# Altium schematic symbol library Incoming UNVERIFIED.SchLib: 12 symbols
Pins are listed as number, name and electrical type; pins without a type are passive.

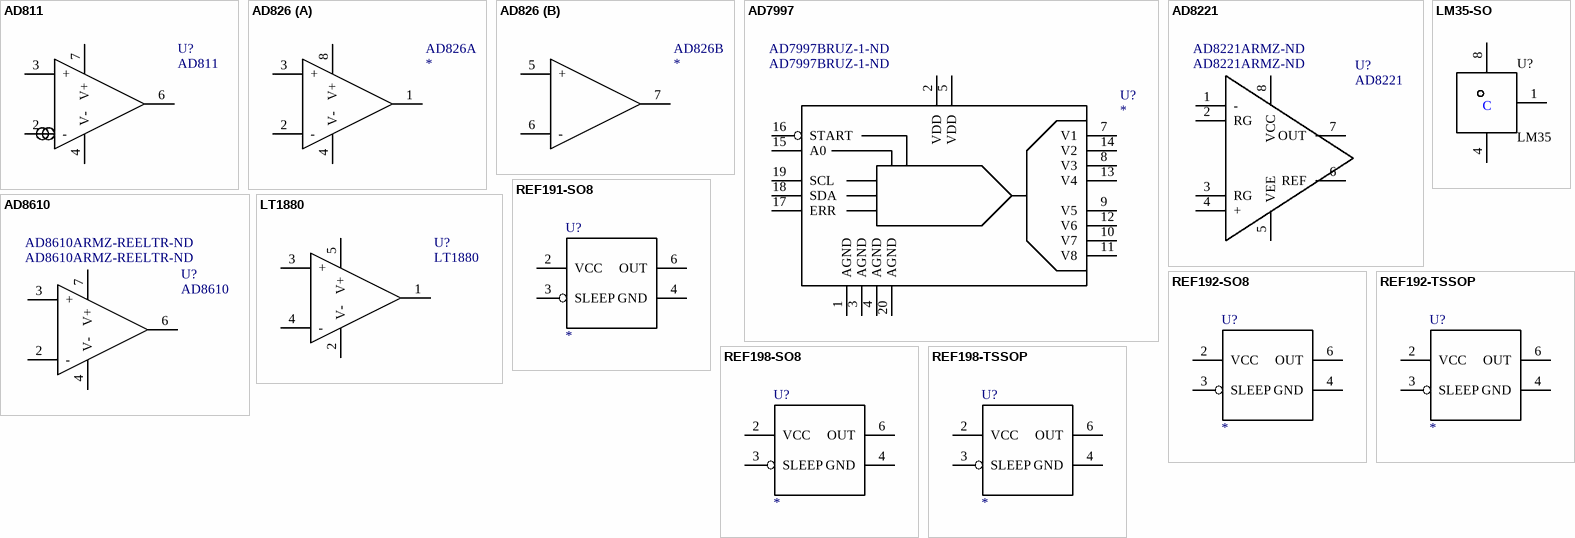
[diagram p0: symbols AD811 to REF198-TSSOP]

## AD811
designator U?
footprint SO8
pins: 2 -, 3 +, 4 V-, 6 OUT, 7 V+

## AD826
designator AD826
AD826; Manufacturer: Analog Devices Inc; Manufacturer Part Number: AD826ARZ; Current - Input Bias: 3.3µA; Current - Output / Channel: 50mA; Slew Rate: 350 V/µs; Number of Circuits: 2; Description: IC OPAMP VF 50MHZ DUAL LP 8SOIC; Current - Supply: 6.6mA; Voltage - Supply, Single/Dual (±): 5 V ~ 36 V, ±2.5 V ~ 18 V; Voltage - Input Offset: 500µV; Gain Bandwidth Product: 50MHz; Amplifier Type: Voltage Feedback; Supplier 1: Digi-Key; Supplier: Digi-Key; Package / Case: 8-SOIC (3.9mm Width); Operating Temperature: -40°C ~ 85°C; Category: Integrated Circuits (ICs); Packaging: Tube; RoHS: RoHS Compliant; Output Type: -; Supplier Part Number 1: AD826ARZ-ND; Supplier Part Number: AD826ARZ-ND
footprint SO8
part A pins: 1 OUT, 2 -, 3 +, 4 V-, 8 V+
part B pins: 5 +, 6 -, 7 OUT

## AD7997
designator U?  Supplier Part Number 1: AD7997BRUZ-1-ND
AD7997; Manufacturer Part Number: AD7997BRUZ-1; Manufacturer: Analog Devices Inc; Number of Bits: 10; Data Interface: I²C; Power Dissipation (Max): 2.2mW; Voltage Supply Source: Single Supply; Sampling Rate (Per Second): 188k; Number of Converters: 1; Description: IC ADC 10BIT 8CHAN I2C 20TSSOP; Number of Inputs and Type: 8 Single-Ended, Unipolar; Supplier 1: Digi-Key; Package / Case: 20-TSSOP; RoHS: RoHS Compliant; Packaging: Tube; Operating Temperature: -40°C ~ 85°C; Category: Integrated Circuits (ICs); Supplier: Digi-Key; Supplier Part Number: AD7997BRUZ-1-ND
pins: 1 AGND, 2 VDD, 3 AGND, 4 AGND, 5 VDD, 7  V1, 8 V3, 9 V5, 10 V7, 11 V8, 12 V6, 13 V4, 14 V2, 15 A0, 16 START, 17 ERR, 18 SDA, 19 SCL, 20 AGND

## AD8221
designator U?  Supplier Part Number 1: AD8221ARMZ-ND
Manufacturer: Analog Devices Inc; Manufacturer Part Number: AD8221ARMZ; Number of Circuits: 1; Current - Output / Channel: 18mA; Description: IC AMP INST PREC LN 18MA 8MSOP; Voltage - Supply, Single/Dual (±): ±2.3 V ~ 18 V; Slew Rate: 2 V/µs; Current - Input Bias: 500pA; Amplifier Type: Instrumentation; Voltage - Input Offset: 60µV; Current - Supply: 900µA; Supplier 1: Digi-Key; Packaging: Tube; Package / Case: 8-MSOP, Micro8™, 8-uMAX, 8-uSOP,; Supplier: Digi-Key; Category: Integrated Circuits (ICs); Output Type: -; Operating Temperature: -40°C ~ 85°C; Gain Bandwidth Product: -; RoHS: RoHS Compliant; Supplier Part Number: AD8221ARMZ-ND
footprint MSOP8
pins: 1 -, 2 RG, 3 RG, 4 +, 5 VEE, 6 REF, 7 OUT, 8 VCC

## AD8610
designator U?  Supplier Part Number 1: AD8610ARMZ-REELTR-ND
Manufacturer: Analog Devices Inc; Manufacturer Part Number: AD8610ARMZ-REEL; Description: IC OPAMP JFET 25MHZ PREC 8MSOP; Slew Rate: 60 V/µs; Number of Circuits: 1; Voltage - Input Offset: 85µV; Current - Output / Channel: 45mA; Current - Supply: 3mA; Voltage - Supply, Single/Dual (±): ±5 V ~ 13 V; Amplifier Type: J-FET; Gain Bandwidth Product: 25MHz; Current - Input Bias: 3pA; Supplier 1: Digi-Key; Category: Integrated Circuits (ICs); Operating Temperature: -40°C ~ 125°C; Packaging: Tape & Reel (TR); Package / Case: 8-MSOP, Micro8™, 8-uMAX, 8-uSOP,; RoHS: RoHS Compliant; Supplier: Digi-Key; Output Type: -; Supplier Part Number: AD8610ARMZ-REELTR-ND
footprint MSOP8
pins: 2 -, 3 +, 4 V-, 6 OUT, 7 V+

## LM35-SO
designator U?, comment LM35
LM35 TEMPERATURE SENSOR; Part Field 1: Centigrade Temperature Sensor LM35 SO8; Part Field 2: Digikey; Part Field 3: LM35DM-ND; Part Field 4: NATIONAL SEMICONDUCTOR
footprint SO8
pins: 1 OUT, 4 GND, 8 V+
text: C

## LT1880
designator U?
Manufacturer: Linear Technology; Manufacturer Part Number: LT1880CS5#TRMPBF; Current - Output / Channel: 25mA; Slew Rate: 0.55 V/µs; Current - Input Bias: 150pA; Number of Circuits: 1; Voltage - Supply, Single/Dual (±): 2.7 V ~ 36 V, ±1.35 V ~ 18 V; Voltage - Input Offset: 40µV; Amplifier Type: General Purpose; Description: IC OPAMP PICO/IN RR/OUT TSOT23-5; Gain Bandwidth Product: 1.1MHz; Current - Supply: 1.5mA; Output Type: Rail-to-Rail; Supplier 1: Digi-Key; RoHS: RoHS Compliant; Operating Temperature: 0°C ~ 70°C; Category: Integrated Circuits (ICs); Supplier: Digi-Key; Package / Case: TSOT-23-5, TSOT-5, TSOP-5; Packaging: Tape & Reel (TR); Supplier Part Number 1: LT1880CS5#TRMPBFTR-ND; Supplier Part Number: LT1880CS5#TRMPBFTR-ND
footprint SOT23-5
pins: 1 OUT, 2 V-, 3 +, 4 -, 5 V+

## REF191-SO8
designator U?
REFERENCE DIODE 2.048 VOLT; Manufacturer: Analog Devices Inc; Manufacturer Part Number: REF191GSZ; Tolerance: ±10mV; Number of Channels: 1; Voltage - Output: 2.048V; Voltage - Input: 3 ~ 15 V; Current - Output: 30mA; Current - Quiescent: 45µA; Description: IC VOLT REF LDO 2.048V 8SOIC; Temperature Coefficient: 25ppm/°C; Reference Type: Series; Category: Integrated Circuits (ICs); Current - Cathode: -; Package / Case: 8-SOIC (3.9mm Width); Operating Temperature: -40°C ~ 85°C; Supplier: Digi-Key; Packaging: Tube; RoHS: RoHS Compliant; Supplier 1: Digi-Key; Supplier Part Number: REF191GSZ-ND; Supplier Part Number 1: REF191GSZ-ND
footprint SO8
pins: 2 VCC, 3 SLEEP, 4 GND, 6 OUT

## REF192-SO8
designator U?
REFERENCE DIODE 2.5 VOLT; Manufacturer: Analog Devices Inc; Manufacturer Part Number: REF192GSZ; Tolerance: ±10mV; Number of Channels: 1; Voltage - Output: 2.5V; Voltage - Input: 3 ~ 15 V; Current - Output: 30mA; Current - Quiescent: 45µA; Description: IC VOLT REFERENCE LDO 2.5V 8SOIC; Temperature Coefficient: 25ppm/°C; Reference Type: Series; Supplier 1: Digi-Key; Category: Integrated Circuits (ICs); Current - Cathode: -; Package / Case: 8-SOIC (3.9mm Width); Operating Temperature: -40°C ~ 85°C; Supplier: Digi-Key; Packaging: Tube; RoHS: RoHS Compliant; Supplier Part Number 1: REF192GSZ-ND; Supplier Part Number: REF192GSZ-ND
footprint SO8
pins: 2 VCC, 3 SLEEP, 4 GND, 6 OUT

## REF192-TSSOP
designator U?
REFERENCE DIODE 2.5 VOLT; Manufacturer: Analog Devices Inc; Manufacturer Part Number: REF192GRUZ; Tolerance: ±10mV; Number of Channels: 1; Voltage - Output: 2.5V; Voltage - Input: 3 ~ 15 V; Current - Output: 30mA; Current - Quiescent: 45µA; Description: IC VOLT REF MCRPWR 2.5V 8-TSSOP; Temperature Coefficient: 25ppm/°C; Reference Type: Series; Category: Integrated Circuits (ICs); Current - Cathode: -; Package / Case: 8-TSSOP; Operating Temperature: -40°C ~ 85°C; Supplier: Digi-Key; Packaging: Tube; RoHS: RoHS Compliant; Supplier 1: Digi-Key; Supplier Part Number: REF192GRUZ-ND; Supplier Part Number 1: REF192GRUZ-ND
footprint TSSOP8
pins: 2 VCC, 3 SLEEP, 4 GND, 6 OUT

## REF198-SO8
designator U?
REFERENCE DIODE 4.096 VOLT; Manufacturer: Analog Devices Inc; Manufacturer Part Number: REF192GSZ; Tolerance: ±10mV; Number of Channels: 1; Voltage - Output: 2.5V; Voltage - Input: 3 ~ 15 V; Current - Output: 30mA; Current - Quiescent: 45µA; Description: IC VOLT REFERENCE LDO 2.5V 8SOIC; Temperature Coefficient: 25ppm/°C; Reference Type: Series; Supplier 1: Digi-Key; Category: Integrated Circuits (ICs); Current - Cathode: -; Package / Case: 8-SOIC (3.9mm Width); Operating Temperature: -40°C ~ 85°C; Supplier: Digi-Key; Packaging: Tube; RoHS: RoHS Compliant; Supplier Part Number 1: REF192GSZ-ND; Supplier Part Number: REF192GSZ-ND
footprint SO8
pins: 2 VCC, 3 SLEEP, 4 GND, 6 OUT

## REF198-TSSOP
designator U?
REFERENCE DIODE 4.096 VOLT; Manufacturer: Analog Devices Inc; Manufacturer Part Number: REF192GRUZ; Tolerance: ±10mV; Number of Channels: 1; Voltage - Output: 2.5V; Voltage - Input: 3 ~ 15 V; Current - Output: 30mA; Current - Quiescent: 45µA; Description: IC VOLT REF MCRPWR 2.5V 8-TSSOP; Temperature Coefficient: 25ppm/°C; Reference Type: Series; Category: Integrated Circuits (ICs); Current - Cathode: -; Package / Case: 8-TSSOP; Operating Temperature: -40°C ~ 85°C; Supplier: Digi-Key; Packaging: Tube; RoHS: RoHS Compliant; Supplier 1: Digi-Key; Supplier Part Number: REF192GRUZ-ND; Supplier Part Number 1: REF192GRUZ-ND
footprint TSSOP8
pins: 2 VCC, 3 SLEEP, 4 GND, 6 OUT